# Altium footprint library HDDR_15x1_0.PcbLib: 1 footprints
Each footprint in its own frame and in the unit in brackets; x right, y up, seen from the top. Pads: shape width x height; smd on the part's side, far side on the other; paste and mask are expansions set on the pad; w line width, h text height; cw(c..) or ccw(c..) is an arc to the next point about the centre after c.
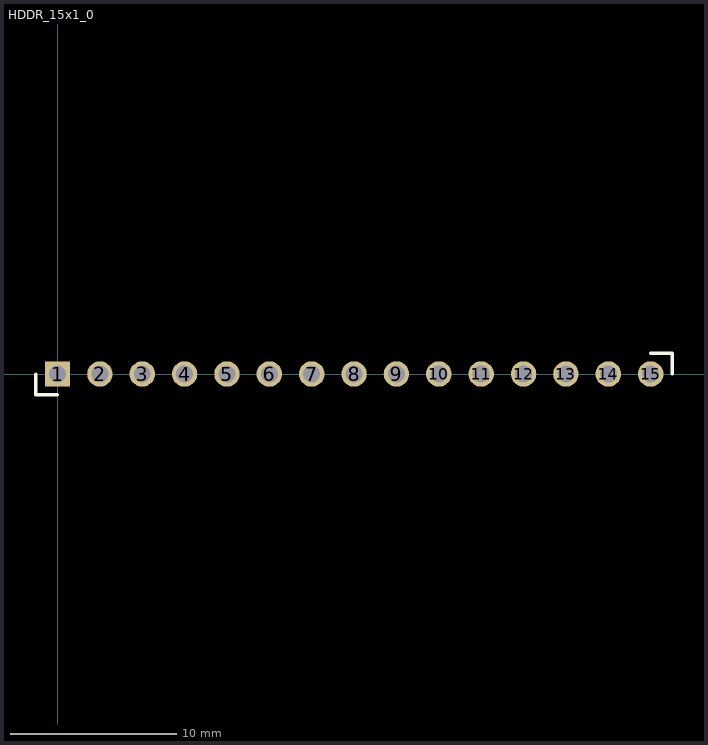
[diagram p0: the footprint, top view; thin cyan lines are the x and y axes]

## HDDR_15x1_0 [mil]
pads (15):
  rect 60x60 hole 40: 1(0,0)
  round 60 hole 40: 2(100,0) 3(200,0) 4(300,0) 5(400,0) 6(500,0) 7(600,0) 8(700,0) 9(800,0) 10(900,0) 11(1000,0) 12(1100,0) 13(1200,0) 14(1300,0) 15(1400,0)
Top Overlay:
  lines w7.87: -51.18,0 -51.18,-49.21 0,-49.21 ; 1400,49.21 1450.79,49.21 1450.79,0
3D body "Pin Header Male 01x15 P2.54mm.stp": height 328.35, standoff -120.08, extent -49.99,-50.09 1450.01,49.91